# Altium schematic symbol library Schlib1.SchLib: 2 symbols
Pins are listed as number, name and electrical type; pins without a type are passive.

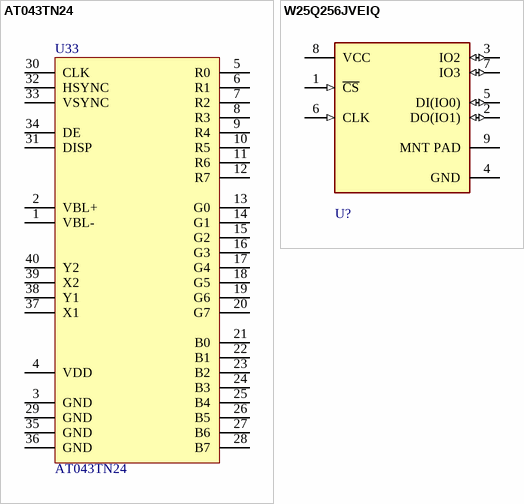
[diagram p0: symbols AT043TN24 to W25Q256JVEIQ]

## AT043TN24
designator U33
LCD,  TFT, 4.3 inch, 480x272 pixels with LED Backlight and touch panel, high luminance with 0.5mm pitch flat cable; Internal_Part_Number: MCD-02422; Part_Type: Display; Part_Preference: Recommended; Manufacturer: ROCKTECH; Manufacturer_Part_Number: RK043FN78HV-CT661C; Value: RK043FN78H-CT661C; Component_Country_Of_Origin: Unknown; ShowFields: YES; ID: 4528; Order_code_Digikey: N/A; Order_code_Farnell: N/A; Order_code_RS: N/A; Status: Released; ComponentLink1URL: http://tunmcdsvn.tun.st.com/Component_Documentation_Library/Trunk/Display/ROCKTECH_RK043FN78H-CT661C
footprint LCD_DRAWING_ROCKTEK_RK043FN78H-CT661C
pins: 1 VBL-, 2 VBL+, 3 GND, 4 VDD, 5 R0, 6 R1, 7 R2, 8 R3, 9 R4, 10 R5, 11 R6, 12 R7, 13 G0, 14 G1, 15 G2, 16 G3, 17 G4, 18 G5, 19 G6, 20 G7, 21 B0, 22 B1, 23 B2, 24 B3, 25 B4, 26 B5, 27 B6, 28 B7, 29 GND, 30 CLK, 31 DISP, 32 HSYNC, 33 VSYNC, 34 DE, 35 GND, 36 GND, 37 X1, 38 Y1, 39 X2, 40 Y2

## W25Q256JVEIQ
designator U?  (value not drawn)
footprint WSON_8
pins: 1 ~{CS} (in), 2 DO(IO1) (io), 3 IO2 (io), 4 GND (power), 5 DI(IO0) (io), 6 CLK (in), 7 IO3 (io), 8 VCC (power), 9 MNT PAD